# Altium footprint library SOIC127P790X216-8N.PcbLib: 1 footprints
Each footprint in its own frame and in the unit in brackets; x right, y up, seen from the top. Pads: shape width x height; smd on the part's side, far side on the other; paste and mask are expansions set on the pad; w line width, h text height; cw(c..) or ccw(c..) is an arc to the next point about the centre after c.
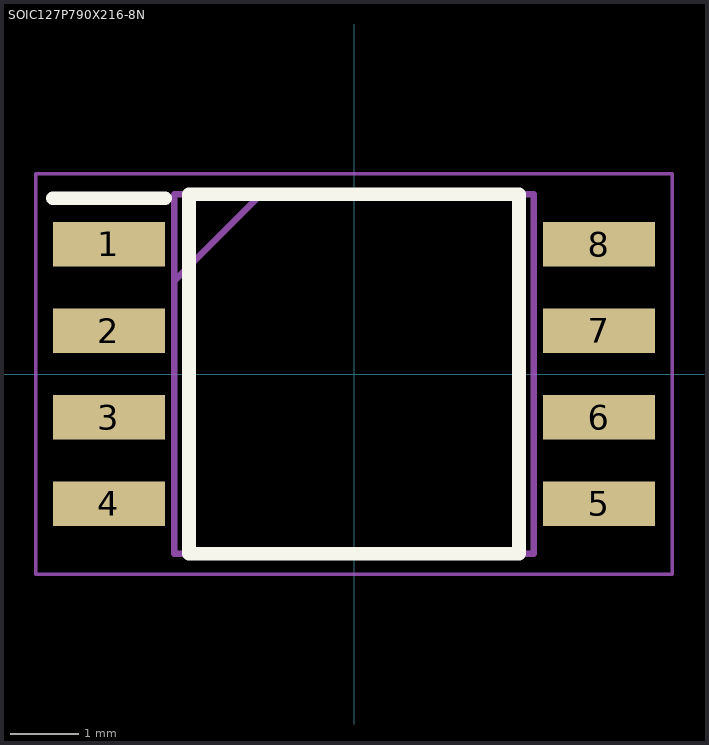
[diagram p0: the footprint, top view; thin cyan lines are the x and y axes]

## SOIC127P790X216-8N [mm]
pads (8):
  rect 1.65x0.65 smd: 1(-3.6,1.905) 2(-3.6,0.635) 3(-3.6,-0.635) 4(-3.6,-1.905) 5(3.6,-1.905) 6(3.6,-0.635) 7(3.6,0.635) 8(3.6,1.905)
Top Overlay:
  lines w0.2: -4.425,2.58 -2.775,2.58 ; -2.425,-2.64 -2.425,2.64 2.425,2.64 2.425,-2.64 -2.425,-2.64
Mechanical 15:
  lines w0.1: -2.64,1.37 -1.37,2.64 ; -2.64,-2.64 -2.64,2.64 2.64,2.64 2.64,-2.64 -2.64,-2.64
Mechanical 20:
  lines w0.05: -4.675,-2.94 -4.675,2.94 4.675,2.94 4.675,-2.94 -4.675,-2.94
3D body "W25Q128JVSIM_TR.stp": height 2.16, standoff 0, extent -3.963,-2.64 3.937,2.64